# EAGLE library part CON_CAMERA_FPC_25P_0.3MM (library STM32F4)
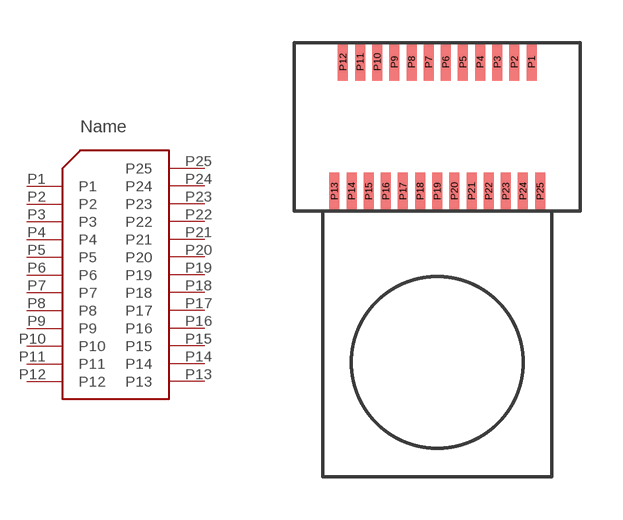
[diagram p1: symbol with the pads of CON_CAMERA_FPC_25P_0.3MM; footprint CON_CAMERA_FPC_25P_0.3MM]

Designator prefix -

## CON_CAMERA_FPC_25P_0.3MM  [CON_CAMERA_FPC_25P_0.3MM]
P1  P1
P2  P2
P3  P3
P4  P4
P5  P5
P6  P6
P7  P7
P8  P8
P9  P9
P10  P10
P11  P11
P12  P12
P13  P13
P14  P14
P15  P15
P16  P16
P17  P17
P18  P18
P19  P19
P20  P20
P21  P21
P22  P22
P23  P23
P24  P24
P25  P25

## Footprint CON_CAMERA_FPC_25P_0.3MM (pad centres in mm)
smd 0.35 x 1.3: P1 3.3,4.525; P2 2.7,4.525; P3 2.1,4.525; P4 1.5,4.525; P5 0.9,4.525; P6 0.3,4.525; P7 -0.3,4.525; P8 -0.9,4.525; P9 -1.5,4.525; P10 -2.1,4.525; P11 -2.7,4.525; P12 -3.3,4.525; P13 -3.6,0; P14 -3,0; P15 -2.4,0; P16 -1.8,0; P17 -1.2,0; P18 -0.6,0; P19 0,0; P20 0.6,0; P21 1.2,0; P22 1.8,0; P23 2.4,0; P24 3,0; P25 3.6,0